# Altium footprint library 3019_PCB.PcbLib: 1 footprints
Each footprint in its own frame and in the unit in brackets; x right, y up, seen from the top. Pads: shape width x height; smd on the part's side, far side on the other; paste and mask are expansions set on the pad; w line width, h text height; cw(c..) or ccw(c..) is an arc to the next point about the centre after c.
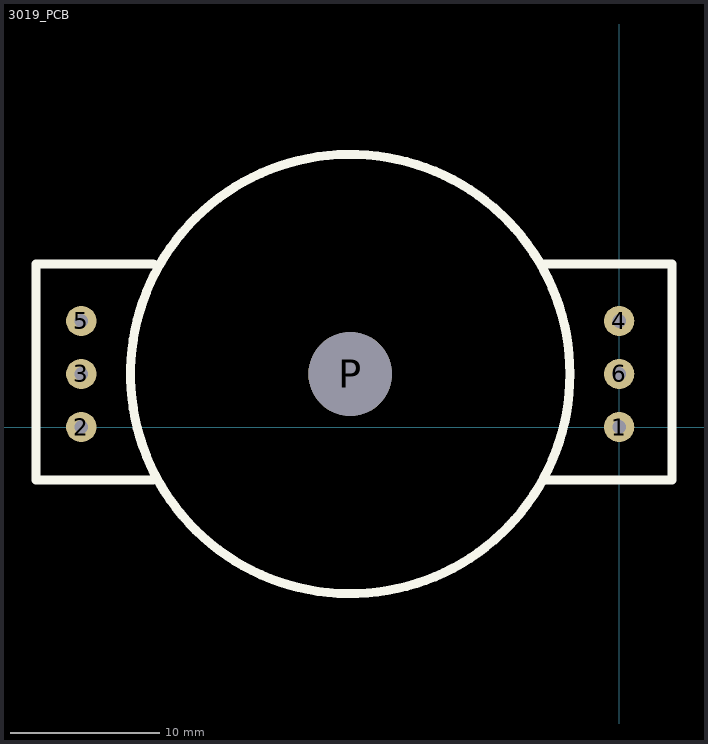
[diagram p0: the footprint, top view; thin cyan lines are the x and y axes]

## 3019_PCB [mil]
pads (7):
  round 80 hole 36: 1(0,0) 2(-1420,0) 3(-1420,140) 4(0,280) 5(-1420,280) 6(0,140)
  round 221 hole 221 unplated: P(-710,140)
Top Overlay:
  circle w24: c-710,140 r580
  lines w24: -1230,-140 -1540,-140 -1540,430 -1230,430 ; -200,430 140,430 140,-140 -190,-140
  text "." at 0,-220 h90
Mechanical 4:
  text ".895" at 0,0 h1